# Altium schematic symbol library SCH - ARM CORTEX - STM STM8L151G4Yx.SchLib: 1 symbol
Pins are listed as number, name and electrical type; pins without a type are passive.

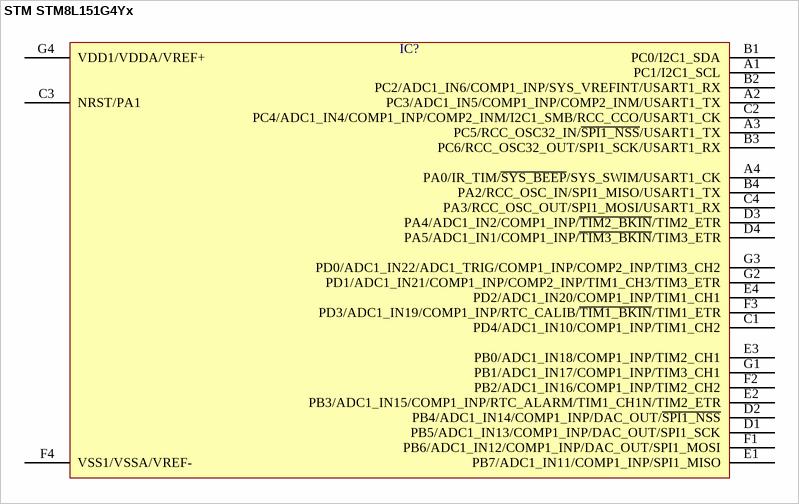
[diagram p0: symbol STM STM8L151G4Yx]

## STM STM8L151G4Yx
designator IC?  (value not drawn)
pins: A1 PC1/I2C1_SCL, A2 PC3/ADC1_IN5/COMP1_INP/COMP2_INM/USART1_TX, A3 PC5/RCC_OSC32_IN/~{SPI1_NSS}/USART1_TX, A4 PA0/IR_TIM/~{SYS_BEEP}/SYS_SWIM/USART1_CK, B1 PC0/I2C1_SDA, B2 PC2/ADC1_IN6/COMP1_INP/SYS_VREFINT/USART1_RX, B3 PC6/RCC_OSC32_OUT/SPI1_SCK/USART1_RX, B4 PA2/RCC_OSC_IN/SPI1_MISO/USART1_TX, C1 PD4/ADC1_IN10/COMP1_INP/TIM1_CH2, C2 PC4/ADC1_IN4/COMP1_INP/COMP2_INM/I2C1_SMB/RCC_CCO/USART1_CK, C3 NRST/PA1, C4 PA3/RCC_OSC_OUT/SPI1_MOSI/USART1_RX, D1 PB5/ADC1_IN13/COMP1_INP/DAC_OUT/SPI1_SCK, D2 PB4/ADC1_IN14/COMP1_INP/DAC_OUT/~{SPI1_NSS}, D3 PA4/ADC1_IN2/COMP1_INP/~{TIM2_BKIN}/TIM2_ETR, D4 PA5/ADC1_IN1/COMP1_INP/~{TIM3_BKIN}/TIM3_ETR, E1 PB7/ADC1_IN11/COMP1_INP/SPI1_MISO, E2 PB3/ADC1_IN15/COMP1_INP/RTC_ALARM/TIM1_CH1N/TIM2_ETR, E3 PB0/ADC1_IN18/COMP1_INP/TIM2_CH1, E4 PD2/ADC1_IN20/COMP1_INP/TIM1_CH1, F1 PB6/ADC1_IN12/COMP1_INP/DAC_OUT/SPI1_MOSI, F2 PB2/ADC1_IN16/COMP1_INP/TIM2_CH2, F3 PD3/ADC1_IN19/COMP1_INP/RTC_CALIB/~{TIM1_BKIN}/TIM1_ETR, F4 VSS1/VSSA/VREF-, G1 PB1/ADC1_IN17/COMP1_INP/TIM3_CH1, G2 PD1/ADC1_IN21/COMP1_INP/COMP2_INP/TIM1_CH3/TIM3_ETR, G3 PD0/ADC1_IN22/ADC1_TRIG/COMP1_INP/COMP2_INP/TIM3_CH2, G4 VDD1/VDDA/VREF+